# EAGLE library part 93LC46B-I_MS (library NetGeeks)
1K, 64 X 16 SERIAL EEPROM, IND Source: Datasheet <http://ww1.microchip.com/downloads/en/DeviceDoc/20001749K.pdf>
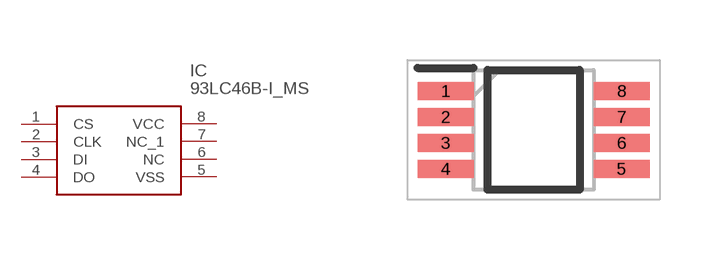
[diagram p4: symbol with the pads of SOP65P490X110-8N; footprint SOP65P490X110-8N]

Designator prefix IC

## 93LC46B-I_MS (Allied_Number: 70046005; Allied_Price/Stock: http://www.alliedelec.com/microchip-technology-inc-93lc46b-i-ms/70046005/; Arrow_Part_Number: 93LC46B-I/MS; Arrow_Price/Stock: https://www.arrow.com/en/products/93lc46b-ims/microchip-technology; Description: 1K, 64 X 16 SERIAL EEPROM, IND; Height: 1.1mm; Manufacturer_Name: Microchip; Manufacturer_Part_Number: 93LC46B-I/MS; RS_Part_Number: 6878887P; RS_Price/Stock: http://uk.rs-online.com/web/p/products/6878887P)  [SOP65P490X110-8N]
1  CS  in
2  CLK  in
3  DI
4  DO
5  VSS  pwr
6  NC  nc
7  NC_1
8  VCC  pwr

## Footprint SOP65P490X110-8N (pad centres in mm)
8 Lead MS MSOP
smd 1.4 x 0.45: 1 -2.2,0.975; 2 -2.2,0.325; 3 -2.2,-0.325; 4 -2.2,-0.975; 5 2.2,-0.975; 6 2.2,-0.325; 7 2.2,0.325; 8 2.2,0.975